# EAGLE library part ATMEGA328-AU (library usb-pd)
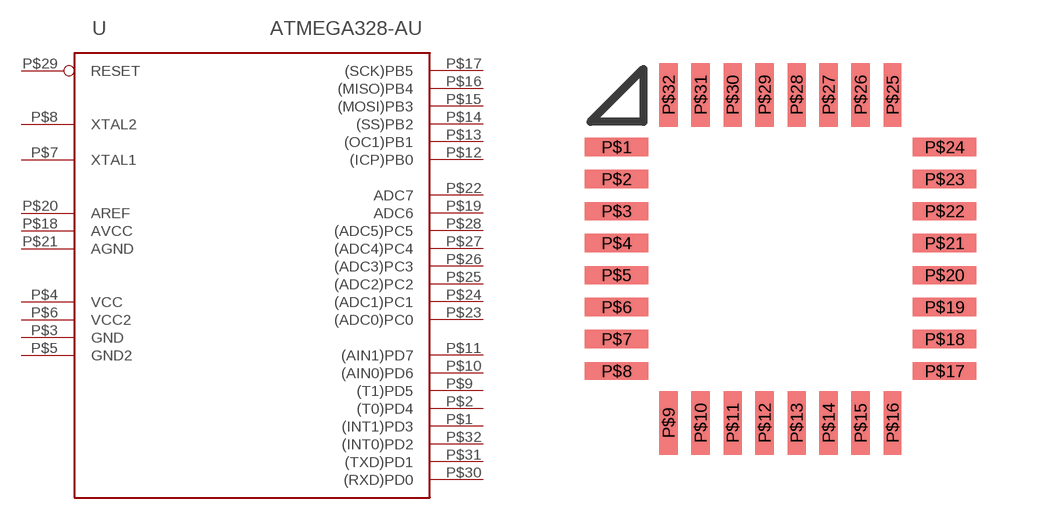
[diagram p4: symbol with the pads of 32-TQFP; footprint 32-TQFP]

Designator prefix U

## ATMEGA328-AU (DIGIKEY: ATMEGA328-AU-ND)  [32-TQFP]
P$1  (INT1)PD3
P$2  (T0)PD4
P$3  GND
P$4  VCC
P$5  GND2
P$6  VCC2
P$7  XTAL1
P$8  XTAL2
P$9  (T1)PD5
P$10  (AIN0)PD6
P$11  (AIN1)PD7
P$12  (ICP)PB0
P$13  (OC1)PB1
P$14  (SS)PB2
P$15  (MOSI)PB3
P$16  (MISO)PB4
P$17  (SCK)PB5
P$18  AVCC
P$19  ADC6
P$20  AREF
P$21  AGND
P$22  ADC7
P$23  (ADC0)PC0
P$24  (ADC1)PC1
P$25  (ADC2)PC2
P$26  (ADC3)PC3
P$27  (ADC4)PC4
P$28  (ADC5)PC5
P$29  RESET
P$30  (RXD)PD0
P$31  (TXD)PD1
P$32  (INT0)PD2

## Footprint 32-TQFP (pad centres in mm)
smd 1.6 x 0.45: P$1 -4.1,2.8; P$2 -4.1,2; P$3 -4.1,1.2; P$4 -4.1,0.4; P$5 -4.1,-0.4; P$6 -4.1,-1.2; P$7 -4.1,-2; P$8 -4.1,-2.8; P$17 4.1,-2.8; P$18 4.1,-2; P$19 4.1,-1.2; P$20 4.1,-0.4; P$21 4.1,0.4; P$22 4.1,1.2; P$23 4.1,2; P$24 4.1,2.8
smd 0.45 x 1.6: P$9 -2.8,-4.1; P$10 -2,-4.1; P$11 -1.2,-4.1; P$12 -0.4,-4.1; P$13 0.4,-4.1; P$14 1.2,-4.1; P$15 2,-4.1; P$16 2.8,-4.1; P$25 2.8,4.1; P$26 2,4.1; P$27 1.2,4.1; P$28 0.4,4.1; P$29 -0.4,4.1; P$30 -1.2,4.1; P$31 -2,4.1; P$32 -2.8,4.1